# EAGLE library part ?7B-XH (library con-jst-xh)
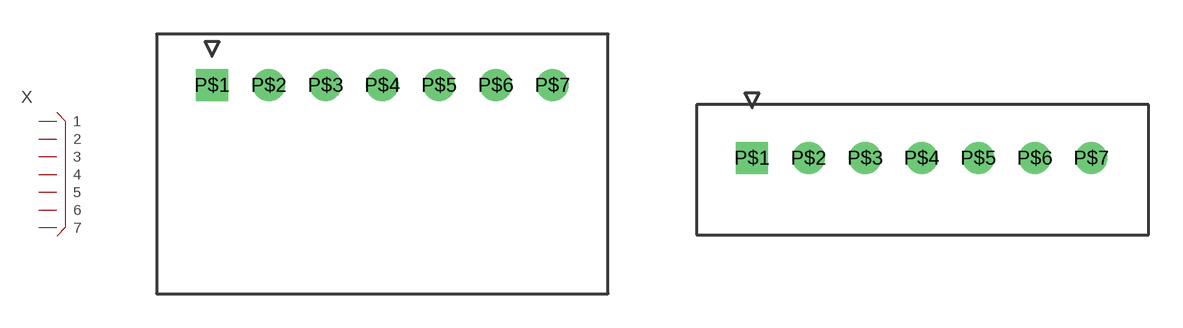
[diagram p1: symbol with the pads of S7B-XH; footprints S7B-XH, B7B-XH]

Designator prefix X

## S7B-XH  [S7B-XH]
P$1  1
P$2  2
P$3  3
P$4  4
P$5  5
P$6  6
P$7  7

## B7B-XH  [B7B-XH]
Pads as for S7B-XH

## Footprint S7B-XH (pad centres in mm)
drill 0.9 pad 1.422 square: P$1 0,0
drill 0.9 pad 1.422: P$2 2.5,0; P$3 5,0; P$4 7.5,0; P$5 10,0; P$6 12.5,0; P$7 15,0

## Footprint B7B-XH (pad centres in mm)
drill 0.9 pad 1.422 square: P$1 0,0
drill 0.9 pad 1.422: P$2 2.5,0; P$3 5,0; P$4 7.5,0; P$5 10,0; P$6 12.5,0; P$7 15,0